# Altium integrated library LM317DCY.IntLib: 1 symbol
Pins are listed as number, name and electrical type; pins without a type are passive.

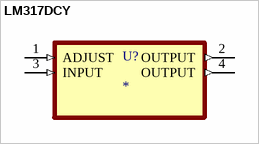
[diagram p0: symbol LM317DCY]

## LM317DCY
designator U?
1.5-A, 40-V, adjustable linear voltage regulator; MF: Texas Instruments; MP: LM317DCY; SnapEDA_Link: https://www.snapeda.com/parts/LM317DCY/Texas+Instruments/view-part/?ref=snap; Package: SOT-223-4 Texas Instruments; Value: *; Check_prices: https://www.snapeda.com/parts/LM317DCY/Texas+Instruments/view-part/?ref=eda
footprint SOT230P700X180-4N
pins: 1 ADJUST (in), 2 OUTPUT (out), 3 INPUT (in), 4 OUTPUT (out)